# EAGLE library part K-HEADER-MALE-1X16- (library elpp-tht-v1.2)
PIN HEADER
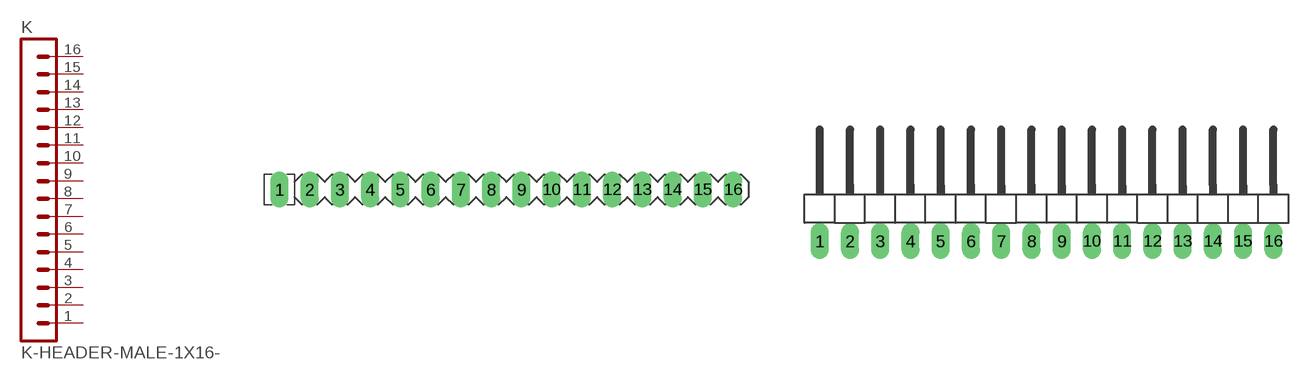
[diagram p17: symbol with the pads of ELPP-SIL-M-16-WAY; footprints ELPP-SIL-M-16-WAY, ELPP-SIL-M-16-WAY-90DEG]

Designator prefix K

## K-HEADER-MALE-1X16-V (FARNELL: 1098454; RS: 6812058)  [ELPP-SIL-M-16-WAY]
1  1  pas
2  2  pas
3  3  pas
4  4  pas
5  5  pas
6  6  pas
7  7  pas
8  8  pas
9  9  pas
10  10  pas
11  11  pas
12  12  pas
13  13  pas
14  14  pas
15  15  pas
16  16  pas

## K-HEADER-MALE-1X16-H (FARNELL: 1098476; RS: 6812060)  [ELPP-SIL-M-16-WAY-90DEG]
Pads as for ELPP-SIL-M-16-WAY

## Footprint ELPP-SIL-M-16-WAY (pad centres in mm)
PIN HEADER, 16-way
drill 1 long: 1 -5.08,0; 2 -2.54,0; 3 0,0; 4 2.54,0; 5 5.08,0; 6 7.62,0; 7 10.16,0; 8 12.7,0; 9 15.24,0; 10 17.78,0; 11 20.32,0; 12 22.86,0; 13 25.4,0; 14 27.94,0; 15 30.48,0; 16 33.02,0

## Footprint ELPP-SIL-M-16-WAY-90DEG (pad centres in mm)
PIN HEADER, 1 row, 90 degrees
drill 1 long: 1 -19.05,0; 2 -16.51,0; 3 -13.97,0; 4 -11.43,0; 5 -8.89,0; 6 -6.35,0; 7 -3.81,0; 8 -1.27,0; 9 1.27,0; 10 3.81,0; 11 6.35,0; 12 8.89,0; 13 11.43,0; 14 13.97,0; 15 16.51,0; 16 19.05,0